# EAGLE library part NRF52-E73 (library common)
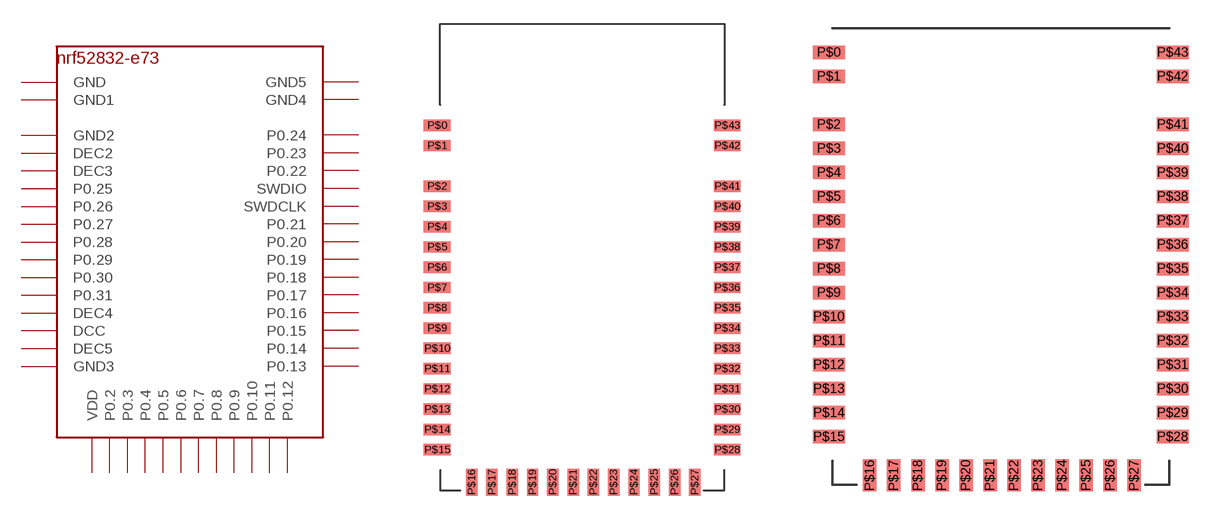
[diagram p6: symbol with the pads of NRF52-E73; footprints NRF52-E73, NRF52-E73-EDGEBOARD]

Designator prefix -

## NRF52-E73  [NRF52-E73]
P$0  GND
P$1  GND1
P$2  GND2
P$3  DEC2
P$4  DEC3
P$5  P0.25
P$6  P0.26
P$7  P0.27
P$8  P0.28
P$9  P0.29
P$10  P0.30
P$11  P0.31
P$12  DEC4
P$13  DCC
P$14  DEC5
P$15  GND3
P$16  VDD
P$17  P0.2
P$18  P0.3
P$19  P0.4
P$20  P0.5
P$21  P0.6
P$22  P0.7
P$23  P0.8
P$24  P0.9
P$25  P0.10
P$26  P0.11
P$27  P0.12
P$28  P0.13
P$29  P0.14
P$30  P0.15
P$31  P0.16
P$32  P0.17
P$33  P0.18
P$34  P0.19
P$35  P0.20
P$36  P0.21
P$37  SWDCLK
P$38  SWDIO
P$39  P0.22
P$40  P0.23
P$41  P0.24
P$42  GND4
P$43  GND5

## NRF52-E73EDGEBOARD  [NRF52-E73-EDGEBOARD]
Pads as for NRF52-E73

## Footprint NRF52-E73 (pad centres in mm)
smd 1.676 x 0.713: P$0 -9.081,7.62; P$1 -9.081,6.35; P$2 -9.081,3.81; P$3 -9.081,2.54; P$4 -9.081,1.27; P$5 -9.081,0; P$6 -9.081,-1.27; P$7 -9.081,-2.54; P$8 -9.081,-3.81; P$9 -9.081,-5.08; P$10 -9.081,-6.35; P$11 -9.081,-7.62; P$12 -9.081,-8.89; P$13 -9.081,-10.16; P$14 -9.081,-11.43; P$15 -9.081,-12.7; P$28 9.081,-12.7; P$29 9.081,-11.43; P$30 9.081,-10.16; P$31 9.081,-8.89; P$32 9.081,-7.62; P$33 9.081,-6.35; P$34 9.081,-5.08; P$35 9.081,-3.81; P$36 9.081,-2.54; P$37 9.081,-1.27; P$38 9.081,0; P$39 9.081,1.27; P$40 9.081,2.54; P$41 9.081,3.81; P$42 9.081,6.35; P$43 9.081,7.62
smd 0.713 x 1.676: P$16 -6.921,-14.732; P$17 -5.652,-14.732; P$18 -4.381,-14.732; P$19 -3.111,-14.732; P$20 -1.841,-14.732; P$21 -0.572,-14.732; P$22 0.699,-14.732; P$23 1.968,-14.732; P$24 3.239,-14.732; P$25 4.508,-14.732; P$26 5.779,-14.732; P$27 7.048,-14.732

## Footprint NRF52-E73-EDGEBOARD (pad centres in mm)
smd 1.676 x 0.713: P$0 -9.081,7.62; P$1 -9.081,6.35; P$2 -9.081,3.81; P$3 -9.081,2.54; P$4 -9.081,1.27; P$5 -9.081,0; P$6 -9.081,-1.27; P$7 -9.081,-2.54; P$8 -9.081,-3.81; P$9 -9.081,-5.08; P$10 -9.081,-6.35; P$11 -9.081,-7.62; P$12 -9.081,-8.89; P$13 -9.081,-10.16; P$14 -9.081,-11.43; P$15 -9.081,-12.7; P$28 9.081,-12.7; P$29 9.081,-11.43; P$30 9.081,-10.16; P$31 9.081,-8.89; P$32 9.081,-7.62; P$33 9.081,-6.35; P$34 9.081,-5.08; P$35 9.081,-3.81; P$36 9.081,-2.54; P$37 9.081,-1.27; P$38 9.081,0; P$39 9.081,1.27; P$40 9.081,2.54; P$41 9.081,3.81; P$42 9.081,6.35; P$43 9.081,7.62
smd 0.713 x 1.676: P$16 -6.921,-14.732; P$17 -5.652,-14.732; P$18 -4.381,-14.732; P$19 -3.111,-14.732; P$20 -1.841,-14.732; P$21 -0.572,-14.732; P$22 0.699,-14.732; P$23 1.968,-14.732; P$24 3.239,-14.732; P$25 4.508,-14.732; P$26 5.779,-14.732; P$27 7.048,-14.732